# Altium footprint library Coilcraft.PcbLib: 4 footprints
Each footprint in its own frame and in the unit in brackets; x right, y up, seen from the top. Pads: shape width x height; smd on the part's side, far side on the other; paste and mask are expansions set on the pad; w line width, h text height; cw(c..) or ccw(c..) is an arc to the next point about the centre after c.
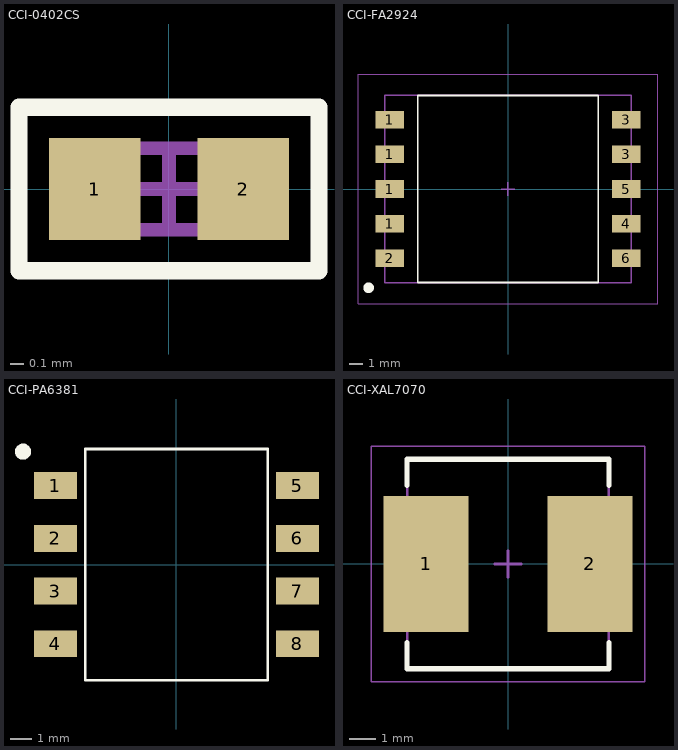
[diagram p0: the footprints below, top view; thin cyan lines are the x and y axes]

## CCI-0402CS [mm] "Chip Inductor, 2-Leads, Body 1.02x0.51mm, IPC Low Density"
height 0.66
pads (2):
  rect 0.67x0.75 smd: 1(-0.545,0) 2(0.545,0)
Top Overlay:
  lines w0.127: -1.1,-0.6 1.1,-0.6 1.1,0.6 -1.1,0.6 -1.1,-0.6
Mechanical 13:
  lines w0.1: -0.5,-0.3 -0.5,0.3 0.5,0.3 0.5,-0.3 -0.5,-0.3
Mechanical 15:
  lines w0.05: -1.1,-0.6 -1.1,0.6 1.1,0.6 1.1,-0.6 -1.1,-0.6
  lines w0.1: -0.255,0 0.255,0 ; 0,-0.255 0,0.255
3D body "User Library-INDC1005X50-MURATA_LQW15A.step": height 0.51, standoff 0, extent -0.5,-0.3 0.5,0.3

## CCI-FA2924 [mil]
height 500
pads (10):
  rect 80x50 smd: 1(-335,-98) 1(-335,0) 1(-335,98) 1(-335,196) 2(-335,-196) 3(335,98) 3(335,196) 4(335,-98) 5(335,0) 6(335,-196)
Top Overlay:
  circle w15: c-394.99,-279.99 r7.5
  lines w5: -256,-264.95 256,-264.95 256,264.95 -256,264.95 -256,-264.95
Mechanical 13:
  lines w3.94: -349.41,-264.97 -349.41,264.95 349.4,264.95 349.4,-264.97 -349.41,-264.97
Mechanical 15:
  lines w1.97: -425,-325 -425,325 425,325 425,-325 -425,-325
  lines w3.94: -19.69,-0.01 19.68,-0.01 ; -0.01,-19.69 -0.01,19.68
3D body "Coilcraft-FA2924-AL.step": height 496.06, standoff -3.99, extent -349.41,-264.97 349.4,264.95

## CCI-PA6381 [mil]
height 433.07
pads (8):
  rect 79.92x50 smd: 1(-225,147) 2(-225,49) 3(-225,-49) 4(-225,-147) 5(225,147) 6(225,49) 7(225,-49) 8(225,-147)
Top Overlay:
  circle w15: c-285,210 r7.5
  lines w5: -169.5,-215 169.5,-215 169.5,215 -169.5,215 -169.5,-215
3D body "Coilcraft-PA6383-AL.step": height 343.31, standoff -11.81, extent -260.05,-214.97 260.03,214.95

## CCI-XAL7070 [mm] "Precision Wire Wound Inductor, 2-Leads, Body 7.20x7.50mm, IPC Low Density"
height 7
pads (2):
  rect 3.25x5.2 smd: 1(-3.125,0) 2(3.125,0)
Top Overlay:
  lines w0.2: -3.85,-3 -3.85,-4 3.85,-4 3.85,-3 ; -3.85,3 -3.85,4 3.85,4 3.85,3
Mechanical 13:
  lines w0.1: -3.85,-4 3.85,-4 3.85,4 -3.85,4 -3.85,-4
Mechanical 15:
  lines w0.05: -5.225,-4.5 -5.225,4.5 5.225,4.5 5.225,-4.5 -5.225,-4.5
  lines w0.1: -0.5,0 0.5,0 ; 0,-0.5 0,0.5
3D body: height 7, standoff 0, extent -3.85,-4 3.85,4